# EAGLE library part TB6612FNG_MODULE (library Board-Ibnu)
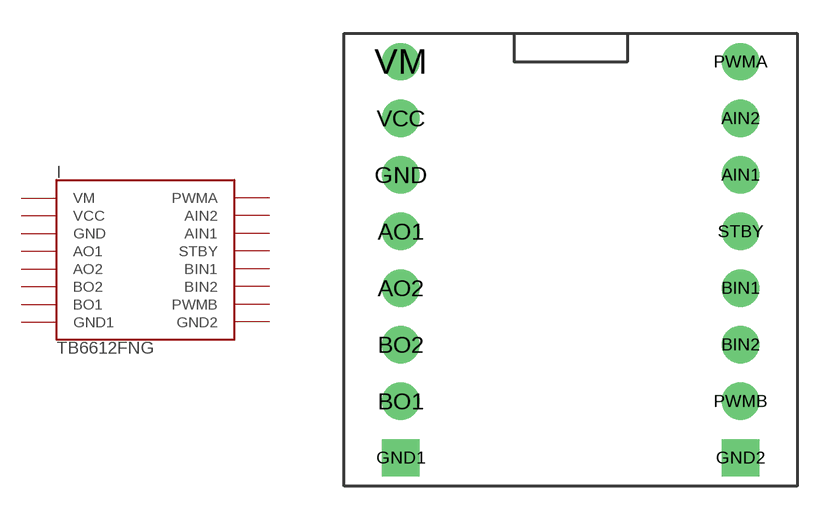
[diagram p2: symbol with the pads of TB6612FNG; footprint TB6612FNG]

Designator prefix I

## TB6612FNG_MODULE  [TB6612FNG]
AIN1  AIN1  in
AIN2  AIN2  in
AO1  AO1  out
AO2  AO2  out
BIN1  BIN1  in
BIN2  BIN2  in
BO1  BO1  out
BO2  BO2  out
GND  GND  pwr
GND1  GND1  pwr
GND2  GND2  pwr
PWMA  PWMA  in
PWMB  PWMB  in
STBY  STBY
VCC  VCC  pwr
VM  VM  pwr

## Footprint TB6612FNG (pad centres in mm)
drill 1 pad 1.676: AIN1 7.62,3.81; AIN2 7.62,6.35; AO1 -7.62,1.27; AO2 -7.62,-1.27; BIN1 7.62,-1.27; BIN2 7.62,-3.81; BO1 -7.62,-6.35; BO2 -7.62,-3.81; GND -7.62,3.81; PWMA 7.62,8.89; PWMB 7.62,-6.35; STBY 7.62,1.27; VCC -7.62,6.35; VM -7.62,8.89
drill 1 pad 1.676 square: GND1 -7.62,-8.89; GND2 7.62,-8.89